# Altium schematic symbol library WCAP-ASLI.SchLib: 142 symbols (part 1 of 3)
Pins are listed as number, name and electrical type; pins without a type are passive.

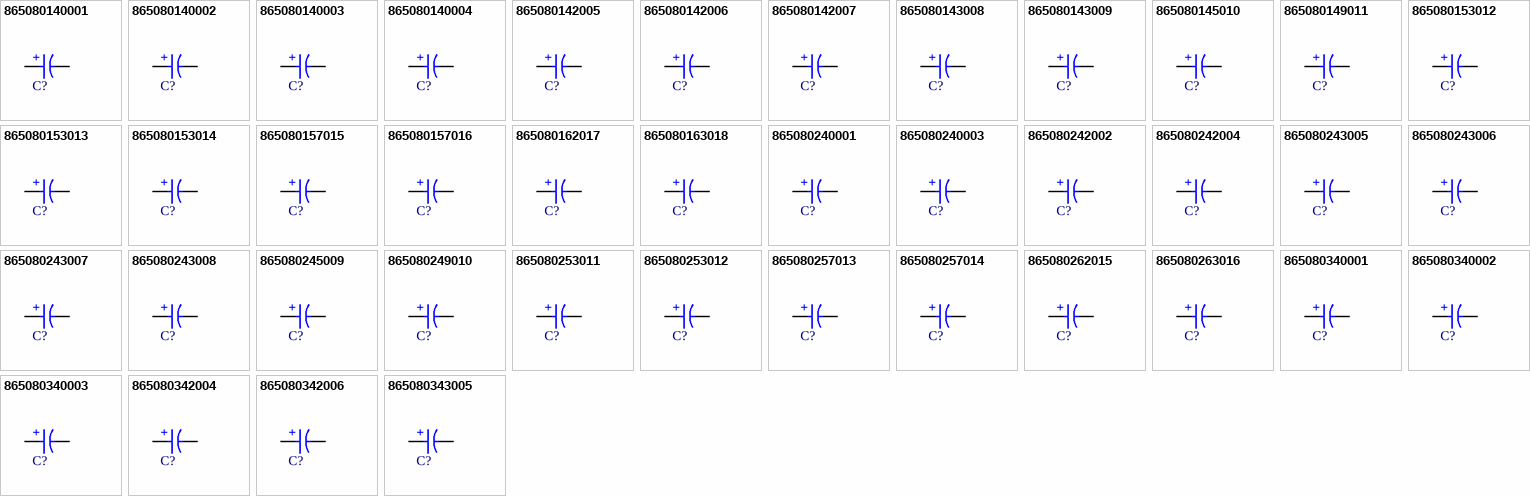
[diagram p0: symbols 865080140001 to 865080343005]

## 865080140001
designator C?, comment 22uF  (value not drawn)
WCAP-ASLI Aluminum Electrolytic Capacitor, V-Chip, D4 x H5.5mm, 22uF, 6.3V; Manufacturer Part Number: 865080140001; Manufacturer: Wurth Elektronik; Capacitance Tolerance: +/-20%; Dissipation Factor: 24%; Endurance: 2000h; Leakage Current: 3uA; Ripple Current: 75mA; Technical Reference: ASEB055220M6R3DVCTAB000; Category: Aluminum Electrolytic Capacitors; Match Code: WCAP-ASLI; ComponentLink1Description: Website Link; ComponentLink1URL: https://www.we-online.com/redexpert/article/865080140001?ad; ComponentLink2Description: Datasheet Link; ComponentLink2URL: https://www.we-online.com/redexpert/spec/865080140001?ad; Mount: Surface Mount; Operating Temperature Max: 105°C; Operating Temperature Min: -55°C; Packaging: Tape and Reel; Height: 5.5mm; Diameter: 4mm; Capacitance: 22uF; Rated Voltage (DC): 6.3V
footprint WCAP-ASLI_D4H5.5
simulation model 865080140001_22uF
pins: 1 P, 2 N
text: +

## 865080140002
designator C?, comment 27uF  (value not drawn)
WCAP-ASLI Aluminum Electrolytic Capacitor, V-Chip, D4 x H5.5mm, 27uF, 6.3V; Manufacturer Part Number: 865080140002; Manufacturer: Wurth Elektronik; Capacitance Tolerance: +/-20%; Dissipation Factor: 24%; Endurance: 2000h; Leakage Current: 3uA; Ripple Current: 79mA; Technical Reference: ASEB055270M6R3DVCTAB000; Category: Aluminum Electrolytic Capacitors; Match Code: WCAP-ASLI; ComponentLink1Description: Website Link; ComponentLink1URL: https://www.we-online.com/redexpert/article/865080140002?ad; ComponentLink2Description: Datasheet Link; ComponentLink2URL: https://www.we-online.com/redexpert/spec/865080140002?ad; Mount: Surface Mount; Operating Temperature Max: 105°C; Operating Temperature Min: -55°C; Packaging: Tape and Reel; Height: 5.5mm; Diameter: 4mm; Capacitance: 27uF; Rated Voltage (DC): 6.3V
footprint WCAP-ASLI_D4H5.5
simulation model 865080140002_27uF
pins: 1 P, 2 N
text: +

## 865080140003
designator C?, comment 33uF  (value not drawn)
WCAP-ASLI Aluminum Electrolytic Capacitor, V-Chip, D4 x H5.5mm, 33uF, 6.3V; Manufacturer Part Number: 865080140003; Manufacturer: Wurth Elektronik; Capacitance Tolerance: +/-20%; Dissipation Factor: 24%; Endurance: 2000h; Leakage Current: 3uA; Ripple Current: 82mA; Technical Reference: ASEB055330M6R3DVCTAB000; Category: Aluminum Electrolytic Capacitors; Match Code: WCAP-ASLI; ComponentLink1Description: Website Link; ComponentLink1URL: https://www.we-online.com/redexpert/article/865080140003?ad; ComponentLink2Description: Datasheet Link; ComponentLink2URL: https://www.we-online.com/redexpert/spec/865080140003?ad; Mount: Surface Mount; Operating Temperature Max: 105°C; Operating Temperature Min: -55°C; Packaging: Tape and Reel; Height: 5.5mm; Diameter: 4mm; Capacitance: 33uF; Rated Voltage (DC): 6.3V
footprint WCAP-ASLI_D4H5.5
simulation model 865080140003_33uF
pins: 1 P, 2 N
text: +

## 865080140004
designator C?, comment 47uF  (value not drawn)
WCAP-ASLI Aluminum Electrolytic Capacitor, V-Chip, D4 x H5.5mm, 47uF, 6.3V; Manufacturer Part Number: 865080140004; Manufacturer: Wurth Elektronik; Capacitance Tolerance: +/-20%; Dissipation Factor: 24%; Endurance: 2000h; Leakage Current: 3uA; Ripple Current: 86mA; Technical Reference: ASEB055470M6R3DVCTAB000; Category: Aluminum Electrolytic Capacitors; Match Code: WCAP-ASLI; ComponentLink1Description: Website Link; ComponentLink1URL: https://www.we-online.com/redexpert/article/865080140004?ad; ComponentLink2Description: Datasheet Link; ComponentLink2URL: https://www.we-online.com/redexpert/spec/865080140004?ad; Mount: Surface Mount; Operating Temperature Max: 105°C; Operating Temperature Min: -55°C; Packaging: Tape and Reel; Height: 5.5mm; Diameter: 4mm; Capacitance: 47uF; Rated Voltage (DC): 6.3V
footprint WCAP-ASLI_D4H5.5
simulation model 865080140004_47uF
pins: 1 P, 2 N
text: +

## 865080142005
designator C?, comment 56uF  (value not drawn)
WCAP-ASLI Aluminum Electrolytic Capacitor, V-Chip, D5 x H5.5mm, 56uF, 6.3V; Manufacturer Part Number: 865080142005; Manufacturer: Wurth Elektronik; Capacitance Tolerance: +/-20%; Dissipation Factor: 24%; Endurance: 2000h; Leakage Current: 3.528uA; Ripple Current: 150mA; Technical Reference: ASEC055560M6R3DVCTBB000; Category: Aluminum Electrolytic Capacitors; Match Code: WCAP-ASLI; ComponentLink1Description: Website Link; ComponentLink1URL: https://www.we-online.com/redexpert/article/865080142005?ad; ComponentLink2Description: Datasheet Link; ComponentLink2URL: https://www.we-online.com/redexpert/spec/865080142005?ad; Mount: Surface Mount; Operating Temperature Max: 105°C; Operating Temperature Min: -55°C; Packaging: Tape and Reel; Height: 5.5mm; Diameter: 5mm; Capacitance: 56uF; Rated Voltage (DC): 6.3V
footprint WCAP-ASLI_D5H5.5
simulation model 865080142005_56uF
pins: 1 P, 2 N
text: +

## 865080142006
designator C?, comment 68uF  (value not drawn)
WCAP-ASLI Aluminum Electrolytic Capacitor, V-Chip, D5 x H5.5mm, 68uF, 6.3V; Manufacturer Part Number: 865080142006; Manufacturer: Wurth Elektronik; Capacitance Tolerance: +/-20%; Dissipation Factor: 24%; Endurance: 2000h; Leakage Current: 4.284uA; Ripple Current: 160mA; Technical Reference: ASEC055680M6R3DVCTBB000; Category: Aluminum Electrolytic Capacitors; Match Code: WCAP-ASLI; ComponentLink1Description: Website Link; ComponentLink1URL: https://www.we-online.com/redexpert/article/865080142006?ad; ComponentLink2Description: Datasheet Link; ComponentLink2URL: https://www.we-online.com/redexpert/spec/865080142006?ad; Mount: Surface Mount; Operating Temperature Max: 105°C; Operating Temperature Min: -55°C; Packaging: Tape and Reel; Height: 5.5mm; Diameter: 5mm; Capacitance: 68uF; Rated Voltage (DC): 6.3V
footprint WCAP-ASLI_D5H5.5
simulation model 865080142006_68uF
pins: 1 P, 2 N
text: +

## 865080142007
designator C?, comment 100uF  (value not drawn)
WCAP-ASLI Aluminum Electrolytic Capacitor, V-Chip, D5 x H5.5mm, 100uF, 6.3V; Manufacturer Part Number: 865080142007; Manufacturer: Wurth Elektronik; Capacitance Tolerance: +/-20%; Dissipation Factor: 24%; Endurance: 2000h; Leakage Current: 6.3uA; Ripple Current: 170mA; Technical Reference: ASEC055101M6R3DVCTBB000; Category: Aluminum Electrolytic Capacitors; Match Code: WCAP-ASLI; ComponentLink1Description: Website Link; ComponentLink1URL: https://www.we-online.com/redexpert/article/865080142007?ad; ComponentLink2Description: Datasheet Link; ComponentLink2URL: https://www.we-online.com/redexpert/spec/865080142007?ad; Mount: Surface Mount; Operating Temperature Max: 105°C; Operating Temperature Min: -55°C; Packaging: Tape and Reel; Height: 5.5mm; Diameter: 5mm; Capacitance: 100uF; Rated Voltage (DC): 6.3V
footprint WCAP-ASLI_D5H5.5
simulation model 865080142007_100uF
pins: 1 P, 2 N
text: +

## 865080143008
designator C?, comment 150uF  (value not drawn)
WCAP-ASLI Aluminum Electrolytic Capacitor, V-Chip, D6.3 x H5.5mm, 150uF, 6.3V; Manufacturer Part Number: 865080143008; Manufacturer: Wurth Elektronik; Capacitance Tolerance: +/-20%; Dissipation Factor: 24%; Endurance: 2000h; Leakage Current: 9.45uA; Ripple Current: 235mA; Technical Reference: ASED055151M6R3DVCTBB000; Category: Aluminum Electrolytic Capacitors; Match Code: WCAP-ASLI; ComponentLink1Description: Website Link; ComponentLink1URL: https://www.we-online.com/redexpert/article/865080143008?ad; ComponentLink2Description: Datasheet Link; ComponentLink2URL: https://www.we-online.com/redexpert/spec/865080143008?ad; Mount: Surface Mount; Operating Temperature Max: 105°C; Operating Temperature Min: -55°C; Packaging: Tape and Reel; Height: 5.5mm; Diameter: 6.3mm; Capacitance: 150uF; Rated Voltage (DC): 6.3V
footprint WCAP-ASLI_D6.3H5.5
simulation model 865080143008_150uF
pins: 1 P, 2 N
text: +

## 865080143009
designator C?, comment 220uF  (value not drawn)
WCAP-ASLI Aluminum Electrolytic Capacitor, V-Chip, D6.3 x H5.5mm, 220uF, 6.3V; Manufacturer Part Number: 865080143009; Manufacturer: Wurth Elektronik; Capacitance Tolerance: +/-20%; Dissipation Factor: 24%; Endurance: 2000h; Leakage Current: 13.86uA; Ripple Current: 240mA; Technical Reference: ASED055221M6R3DVCTBB000; Category: Aluminum Electrolytic Capacitors; Match Code: WCAP-ASLI; ComponentLink1Description: Website Link; ComponentLink1URL: https://www.we-online.com/redexpert/article/865080143009?ad; ComponentLink2Description: Datasheet Link; ComponentLink2URL: https://www.we-online.com/redexpert/spec/865080143009?ad; Mount: Surface Mount; Operating Temperature Max: 105°C; Operating Temperature Min: -55°C; Packaging: Tape and Reel; Height: 5.5mm; Diameter: 6.3mm; Capacitance: 220uF; Rated Voltage (DC): 6.3V
footprint WCAP-ASLI_D6.3H5.5
simulation model 865080143009_220uF
pins: 1 P, 2 N
text: +

## 865080145010
designator C?, comment 330uF  (value not drawn)
WCAP-ASLI Aluminum Electrolytic Capacitor, V-Chip, D6.3 x H7.7mm, 330uF, 6.3V; Manufacturer Part Number: 865080145010; Manufacturer: Wurth Elektronik; Capacitance Tolerance: +/-20%; Dissipation Factor: 24%; Endurance: 2000h; Leakage Current: 20.79uA; Ripple Current: 275mA; Technical Reference: ASED077331M6R3DVCTCB000; Category: Aluminum Electrolytic Capacitors; Match Code: WCAP-ASLI; ComponentLink1Description: Website Link; ComponentLink1URL: https://www.we-online.com/redexpert/article/865080145010?ad; ComponentLink2Description: Datasheet Link; ComponentLink2URL: https://www.we-online.com/redexpert/spec/865080145010?ad; Mount: Surface Mount; Operating Temperature Max: 105°C; Operating Temperature Min: -55°C; Packaging: Tape and Reel; Height: 7.7mm; Diameter: 6.3mm; Capacitance: 330uF; Rated Voltage (DC): 6.3V
footprint WCAP-ASLI_D6.3H7.7
simulation model 865080145010_330uF
pins: 1 P, 2 N
text: +

## 865080149011
designator C?, comment 330uF  (value not drawn)
WCAP-ASLI Aluminum Electrolytic Capacitor, V-Chip, D8 x H6.5mm, 330uF, 6.3V; Manufacturer Part Number: 865080149011; Manufacturer: Wurth Elektronik; Capacitance Tolerance: +/-20%; Dissipation Factor: 24%; Endurance: 2000h; Leakage Current: 20.79uA; Ripple Current: 290mA; Technical Reference: ASEE065331M6R3DVCTBB000; Category: Aluminum Electrolytic Capacitors; Match Code: WCAP-ASLI; ComponentLink1Description: Website Link; ComponentLink1URL: https://www.we-online.com/redexpert/article/865080149011?ad; ComponentLink2Description: Datasheet Link; ComponentLink2URL: https://www.we-online.com/redexpert/spec/865080149011?ad; Mount: Surface Mount; Operating Temperature Max: 105°C; Operating Temperature Min: -55°C; Packaging: Tape and Reel; Height: 6.5mm; Diameter: 8mm; Capacitance: 330uF; Rated Voltage (DC): 6.3V
footprint WCAP-ASLI_D8H6.5
simulation model 865080149011_330uF
pins: 1 P, 2 N
text: +

## 865080153012
designator C?, comment 470uF  (value not drawn)
WCAP-ASLI Aluminum Electrolytic Capacitor, V-Chip, D8 x H10.5mm, 470uF, 6.3V; Manufacturer Part Number: 865080153012; Manufacturer: Wurth Elektronik; Capacitance Tolerance: +/-20%; Dissipation Factor: 24%; Endurance: 2000h; Leakage Current: 29.61uA; Ripple Current: 450mA; Technical Reference: ASEE105471M6R3DVCTEB000; Category: Aluminum Electrolytic Capacitors; Match Code: WCAP-ASLI; ComponentLink1Description: Website Link; ComponentLink1URL: https://www.we-online.com/redexpert/article/865080153012?ad; ComponentLink2Description: Datasheet Link; ComponentLink2URL: https://www.we-online.com/redexpert/spec/865080153012?ad; Mount: Surface Mount; Operating Temperature Max: 105°C; Operating Temperature Min: -55°C; Packaging: Tape and Reel; Height: 10.5mm; Diameter: 8mm; Capacitance: 470uF; Rated Voltage (DC): 6.3V
footprint WCAP-ASLI_D8H10.5
simulation model 865080153012_470uF
pins: 1 P, 2 N
text: +

## 865080153013
designator C?, comment 680uF  (value not drawn)
WCAP-ASLI Aluminum Electrolytic Capacitor, V-Chip, D8 x H10.5mm, 680uF, 6.3V; Manufacturer Part Number: 865080153013; Manufacturer: Wurth Elektronik; Capacitance Tolerance: +/-20%; Dissipation Factor: 24%; Endurance: 2000h; Leakage Current: 42.84uA; Ripple Current: 500mA; Technical Reference: ASEE105681M6R3DVCTEB000; Category: Aluminum Electrolytic Capacitors; Match Code: WCAP-ASLI; ComponentLink1Description: Website Link; ComponentLink1URL: https://www.we-online.com/redexpert/article/865080153013?ad; ComponentLink2Description: Datasheet Link; ComponentLink2URL: https://www.we-online.com/redexpert/spec/865080153013?ad; Mount: Surface Mount; Operating Temperature Max: 105°C; Operating Temperature Min: -55°C; Packaging: Tape and Reel; Height: 10.5mm; Diameter: 8mm; Capacitance: 680uF; Rated Voltage (DC): 6.3V
footprint WCAP-ASLI_D8H10.5
simulation model 865080153013_680uF
pins: 1 P, 2 N
text: +

## 865080153014
designator C?, comment 1000uF  (value not drawn)
WCAP-ASLI Aluminum Electrolytic Capacitor, V-Chip, D8 x H10.5mm, 1000uF, 6.3V; Manufacturer Part Number: 865080153014; Manufacturer: Wurth Elektronik; Capacitance Tolerance: +/-20%; Dissipation Factor: 24%; Endurance: 2000h; Leakage Current: 63uA; Ripple Current: 530mA; Technical Reference: ASEE105102M6R3DVCTEB000; Category: Aluminum Electrolytic Capacitors; Match Code: WCAP-ASLI; ComponentLink1Description: Website Link; ComponentLink1URL: https://www.we-online.com/redexpert/article/865080153014?ad; ComponentLink2Description: Datasheet Link; ComponentLink2URL: https://www.we-online.com/redexpert/spec/865080153014?ad; Mount: Surface Mount; Operating Temperature Max: 105°C; Operating Temperature Min: -55°C; Packaging: Tape and Reel; Height: 10.5mm; Diameter: 8mm; Capacitance: 1000uF; Rated Voltage (DC): 6.3V
footprint WCAP-ASLI_D8H10.5
simulation model 865080153014_1mF
pins: 1 P, 2 N
text: +

## 865080157015
designator C?, comment 1200uF  (value not drawn)
WCAP-ASLI Aluminum Electrolytic Capacitor, V-Chip, D10 x H10.5mm, 1200uF, 6.3V; Manufacturer Part Number: 865080157015; Manufacturer: Wurth Elektronik; Capacitance Tolerance: +/-20%; Dissipation Factor: 24%; Endurance: 2000h; Leakage Current: 75.6uA; Ripple Current: 600mA; Technical Reference: ASEF105122M6R3DVCTEB000; Category: Aluminum Electrolytic Capacitors; Match Code: WCAP-ASLI; ComponentLink1Description: Website Link; ComponentLink1URL: https://www.we-online.com/redexpert/article/865080157015?ad; ComponentLink2Description: Datasheet Link; ComponentLink2URL: https://www.we-online.com/redexpert/spec/865080157015?ad; Mount: Surface Mount; Operating Temperature Max: 105°C; Operating Temperature Min: -55°C; Packaging: Tape and Reel; Height: 10.5mm; Diameter: 10mm; Capacitance: 1200uF; Rated Voltage (DC): 6.3V
footprint WCAP-ASLI_D10H10.5
simulation model 865080157015_1.2mF
pins: 1 P, 2 N
text: +

## 865080157016
designator C?, comment 1500uF  (value not drawn)
WCAP-ASLI Aluminum Electrolytic Capacitor, V-Chip, D10 x H10.5mm, 1500uF, 6.3V; Manufacturer Part Number: 865080157016; Manufacturer: Wurth Elektronik; Capacitance Tolerance: +/-20%; Dissipation Factor: 24%; Endurance: 2000h; Leakage Current: 94.5uA; Ripple Current: 650mA; Technical Reference: ASEF105152M6R3DVCTEB000; Category: Aluminum Electrolytic Capacitors; Match Code: WCAP-ASLI; ComponentLink1Description: Website Link; ComponentLink1URL: https://www.we-online.com/redexpert/article/865080157016?ad; ComponentLink2Description: Datasheet Link; ComponentLink2URL: https://www.we-online.com/redexpert/spec/865080157016?ad; Mount: Surface Mount; Operating Temperature Max: 105°C; Operating Temperature Min: -55°C; Packaging: Tape and Reel; Height: 10.5mm; Diameter: 10mm; Capacitance: 1500uF; Rated Voltage (DC): 6.3V
footprint WCAP-ASLI_D10H10.5
simulation model 865080157016_1.5mF
pins: 1 P, 2 N
text: +

## 865080162017
designator C?, comment 3300uF  (value not drawn)
WCAP-ASLI Aluminum Electrolytic Capacitor, V-Chip, D12.5 x H14mm, 3300uF, 6.3V; Manufacturer Part Number: 865080162017; Manufacturer: Wurth Elektronik; Capacitance Tolerance: +/-20%; Dissipation Factor: 28%; Endurance: 5000h; Leakage Current: 207.9uA; Ripple Current: 1100mA; Technical Reference: ASEH140332M6R3DVCTGE000; Category: Aluminum Electrolytic Capacitors; Match Code: WCAP-ASLI; ComponentLink1Description: Website Link; ComponentLink1URL: https://www.we-online.com/redexpert/article/865080162017?ad; ComponentLink2Description: Datasheet Link; ComponentLink2URL: https://www.we-online.com/redexpert/spec/865080162017?ad; Mount: Surface Mount; Operating Temperature Max: 105°C; Operating Temperature Min: -55°C; Packaging: Tape and Reel; Height: 14mm; Diameter: 12.5mm; Capacitance: 3300uF; Rated Voltage (DC): 6.3V
footprint WCAP-ASLI_D12.5H14
simulation model 865080162017_3.3mF
pins: 1 P, 2 N
text: +

## 865080163018
designator C?, comment 6800uF  (value not drawn)
WCAP-ASLI Aluminum Electrolytic Capacitor, V-Chip, D16 x H17mm, 6800uF, 6.3V; Manufacturer Part Number: 865080163018; Manufacturer: Wurth Elektronik; Capacitance Tolerance: +/-20%; Dissipation Factor: 34%; Endurance: 5000h; Leakage Current: 428.4uA; Ripple Current: 1250mA; Technical Reference: ASEK170682M6R3DVCTHE000; Category: Aluminum Electrolytic Capacitors; Match Code: WCAP-ASLI; ComponentLink1Description: Website Link; ComponentLink1URL: https://www.we-online.com/redexpert/article/865080163018?ad; ComponentLink2Description: Datasheet Link; ComponentLink2URL: https://www.we-online.com/redexpert/spec/865080163018?ad; Mount: Surface Mount; Operating Temperature Max: 105°C; Operating Temperature Min: -55°C; Packaging: Tape and Reel; Height: 17mm; Diameter: 16mm; Capacitance: 6800uF; Rated Voltage (DC): 6.3V
footprint WCAP-ASLI_D16H17
simulation model 865080163018_6.8mF
pins: 1 P, 2 N
text: +

## 865080240001
designator C?, comment 22uF  (value not drawn)
WCAP-ASLI Aluminum Electrolytic Capacitor, V-Chip, D4 x H5.5mm, 22uF, 10V; Manufacturer Part Number: 865080240001; Manufacturer: Wurth Elektronik; Capacitance Tolerance: +/-20%; Dissipation Factor: 19%; Endurance: 2000h; Leakage Current: 3uA; Ripple Current: 80mA; Technical Reference: ASEB055220M010DVCTAB000; Category: Aluminum Electrolytic Capacitors; Match Code: WCAP-ASLI; ComponentLink1Description: Website Link; ComponentLink1URL: https://www.we-online.com/redexpert/article/865080240001?ad; ComponentLink2Description: Datasheet Link; ComponentLink2URL: https://www.we-online.com/redexpert/spec/865080240001?ad; Mount: Surface Mount; Operating Temperature Max: 105°C; Operating Temperature Min: -55°C; Packaging: Tape and Reel; Height: 5.5mm; Diameter: 4mm; Capacitance: 22uF; Rated Voltage (DC): 10V
footprint WCAP-ASLI_D4H5.5
simulation model 865080240001_22uF
pins: 1 P, 2 N
text: +

## 865080240003
designator C?, comment 33uF  (value not drawn)
WCAP-ASLI Aluminum Electrolytic Capacitor, V-Chip, D4 x H5.5mm, 33uF, 10V; Manufacturer Part Number: 865080240003; Manufacturer: Wurth Elektronik; Capacitance Tolerance: +/-20%; Dissipation Factor: 19%; Endurance: 2000h; Leakage Current: 3.3uA; Ripple Current: 90mA; Technical Reference: ASEB055330M010DVCTAB000; Category: Aluminum Electrolytic Capacitors; Match Code: WCAP-ASLI; ComponentLink1Description: Website Link; ComponentLink1URL: https://www.we-online.com/redexpert/article/865080240003?ad; ComponentLink2Description: Datasheet Link; ComponentLink2URL: https://www.we-online.com/redexpert/spec/865080240003?ad; Mount: Surface Mount; Operating Temperature Max: 105°C; Operating Temperature Min: -55°C; Packaging: Tape and Reel; Height: 5.5mm; Diameter: 4mm; Capacitance: 33uF; Rated Voltage (DC): 10V
footprint WCAP-ASLI_D4H5.5
simulation model 865080240003_33uF
pins: 1 P, 2 N
text: +

## 865080242002
designator C?, comment 27uF  (value not drawn)
WCAP-ASLI Aluminum Electrolytic Capacitor, V-Chip, D5 x H5.5mm, 27uF, 10V; Manufacturer Part Number: 865080242002; Manufacturer: Wurth Elektronik; Capacitance Tolerance: +/-20%; Dissipation Factor: 19%; Endurance: 2000h; Leakage Current: 3uA; Ripple Current: 125mA; Technical Reference: ASEC055270M010DVCTBB000; Category: Aluminum Electrolytic Capacitors; Match Code: WCAP-ASLI; ComponentLink1Description: Website Link; ComponentLink1URL: https://www.we-online.com/redexpert/article/865080242002?ad; ComponentLink2Description: Datasheet Link; ComponentLink2URL: https://www.we-online.com/redexpert/spec/865080242002?ad; Mount: Surface Mount; Operating Temperature Max: 105°C; Operating Temperature Min: -55°C; Packaging: Tape and Reel; Height: 5.5mm; Diameter: 5mm; Capacitance: 27uF; Rated Voltage (DC): 10V
footprint WCAP-ASLI_D5H5.5
simulation model 865080242002_27uF
pins: 1 P, 2 N
text: +

## 865080242004
designator C?, comment 47uF  (value not drawn)
WCAP-ASLI Aluminum Electrolytic Capacitor, V-Chip, D5 x H5.5mm, 47uF, 10V; Manufacturer Part Number: 865080242004; Manufacturer: Wurth Elektronik; Capacitance Tolerance: +/-20%; Dissipation Factor: 19%; Endurance: 2000h; Leakage Current: 4.7uA; Ripple Current: 165mA; Technical Reference: ASEC055470M010DVCTBB000; Category: Aluminum Electrolytic Capacitors; Match Code: WCAP-ASLI; ComponentLink1Description: Website Link; ComponentLink1URL: https://www.we-online.com/redexpert/article/865080242004?ad; ComponentLink2Description: Datasheet Link; ComponentLink2URL: https://www.we-online.com/redexpert/spec/865080242004?ad; Mount: Surface Mount; Operating Temperature Max: 105°C; Operating Temperature Min: -55°C; Packaging: Tape and Reel; Height: 5.5mm; Diameter: 5mm; Capacitance: 47uF; Rated Voltage (DC): 10V
footprint WCAP-ASLI_D5H5.5
simulation model 865080242004_47uF
pins: 1 P, 2 N
text: +

## 865080243005
designator C?, comment 56uF  (value not drawn)
WCAP-ASLI Aluminum Electrolytic Capacitor, V-Chip, D6.3 x H5.5mm, 56uF, 10V; Manufacturer Part Number: 865080243005; Manufacturer: Wurth Elektronik; Capacitance Tolerance: +/-20%; Dissipation Factor: 19%; Endurance: 2000h; Leakage Current: 5.6uA; Ripple Current: 210mA; Technical Reference: ASED055560M010DVCTBB000; Category: Aluminum Electrolytic Capacitors; Match Code: WCAP-ASLI; ComponentLink1Description: Website Link; ComponentLink1URL: https://www.we-online.com/redexpert/article/865080243005?ad; ComponentLink2Description: Datasheet Link; ComponentLink2URL: https://www.we-online.com/redexpert/spec/865080243005?ad; Mount: Surface Mount; Operating Temperature Max: 105°C; Operating Temperature Min: -55°C; Packaging: Tape and Reel; Height: 5.5mm; Diameter: 6.3mm; Capacitance: 56uF; Rated Voltage (DC): 10V
footprint WCAP-ASLI_D6.3H5.5
simulation model 865080243005_56uF
pins: 1 P, 2 N
text: +

## 865080243006
designator C?, comment 68uF  (value not drawn)
WCAP-ASLI Aluminum Electrolytic Capacitor, V-Chip, D6.3 x H5.5mm, 68uF, 10V; Manufacturer Part Number: 865080243006; Manufacturer: Wurth Elektronik; Capacitance Tolerance: +/-20%; Dissipation Factor: 19%; Endurance: 2000h; Leakage Current: 6.8uA; Ripple Current: 220mA; Technical Reference: ASED055680M010DVCTBB000; Category: Aluminum Electrolytic Capacitors; Match Code: WCAP-ASLI; ComponentLink1Description: Website Link; ComponentLink1URL: https://www.we-online.com/redexpert/article/865080243006?ad; ComponentLink2Description: Datasheet Link; ComponentLink2URL: https://www.we-online.com/redexpert/spec/865080243006?ad; Mount: Surface Mount; Operating Temperature Max: 105°C; Operating Temperature Min: -55°C; Packaging: Tape and Reel; Height: 5.5mm; Diameter: 6.3mm; Capacitance: 68uF; Rated Voltage (DC): 10V
footprint WCAP-ASLI_D6.3H5.5
simulation model 865080243006_68uF
pins: 1 P, 2 N
text: +

## 865080243007
designator C?, comment 100uF  (value not drawn)
WCAP-ASLI Aluminum Electrolytic Capacitor, V-Chip, D6.3 x H5.5mm, 100uF, 10V; Manufacturer Part Number: 865080243007; Manufacturer: Wurth Elektronik; Capacitance Tolerance: +/-20%; Dissipation Factor: 19%; Endurance: 2000h; Leakage Current: 10uA; Ripple Current: 240mA; Technical Reference: ASED055101M010DVCTBB000; Category: Aluminum Electrolytic Capacitors; Match Code: WCAP-ASLI; ComponentLink1Description: Website Link; ComponentLink1URL: https://www.we-online.com/redexpert/article/865080243007?ad; ComponentLink2Description: Datasheet Link; ComponentLink2URL: https://www.we-online.com/redexpert/spec/865080243007?ad; Mount: Surface Mount; Operating Temperature Max: 105°C; Operating Temperature Min: -55°C; Packaging: Tape and Reel; Height: 5.5mm; Diameter: 6.3mm; Capacitance: 100uF; Rated Voltage (DC): 10V
footprint WCAP-ASLI_D6.3H5.5
simulation model 865080243007_100uF
pins: 1 P, 2 N
text: +

## 865080243008
designator C?, comment 150uF  (value not drawn)
WCAP-ASLI Aluminum Electrolytic Capacitor, V-Chip, D6.3 x H5.5mm, 150uF, 10V; Manufacturer Part Number: 865080243008; Manufacturer: Wurth Elektronik; Capacitance Tolerance: +/-20%; Dissipation Factor: 19%; Endurance: 2000h; Leakage Current: 15uA; Ripple Current: 250mA; Technical Reference: ASED055151M010DVCTBB000; Category: Aluminum Electrolytic Capacitors; Match Code: WCAP-ASLI; ComponentLink1Description: Website Link; ComponentLink1URL: https://www.we-online.com/redexpert/article/865080243008?ad; ComponentLink2Description: Datasheet Link; ComponentLink2URL: https://www.we-online.com/redexpert/spec/865080243008?ad; Mount: Surface Mount; Operating Temperature Max: 105°C; Operating Temperature Min: -55°C; Packaging: Tape and Reel; Height: 5.5mm; Diameter: 6.3mm; Capacitance: 150uF; Rated Voltage (DC): 10V
footprint WCAP-ASLI_D6.3H5.5
simulation model 865080243008_150uF
pins: 1 P, 2 N
text: +

## 865080245009
designator C?, comment 220uF  (value not drawn)
WCAP-ASLI Aluminum Electrolytic Capacitor, V-Chip, D6.3 x H7.7mm, 220uF, 10V; Manufacturer Part Number: 865080245009; Manufacturer: Wurth Elektronik; Capacitance Tolerance: +/-20%; Dissipation Factor: 19%; Endurance: 2000h; Leakage Current: 22uA; Ripple Current: 270mA; Technical Reference: ASED077221M010DVCTCB000; Category: Aluminum Electrolytic Capacitors; Match Code: WCAP-ASLI; ComponentLink1Description: Website Link; ComponentLink1URL: https://www.we-online.com/redexpert/article/865080245009?ad; ComponentLink2Description: Datasheet Link; ComponentLink2URL: https://www.we-online.com/redexpert/spec/865080245009?ad; Mount: Surface Mount; Operating Temperature Max: 105°C; Operating Temperature Min: -55°C; Packaging: Tape and Reel; Height: 7.7mm; Diameter: 6.3mm; Capacitance: 220uF; Rated Voltage (DC): 10V
footprint WCAP-ASLI_D6.3H7.7
simulation model 865080245009_220uF
pins: 1 P, 2 N
text: +

## 865080249010
designator C?, comment 220uF  (value not drawn)
WCAP-ASLI Aluminum Electrolytic Capacitor, V-Chip, D8 x H6.5mm, 220uF, 10V; Manufacturer Part Number: 865080249010; Manufacturer: Wurth Elektronik; Capacitance Tolerance: +/-20%; Dissipation Factor: 19%; Endurance: 2000h; Leakage Current: 22uA; Ripple Current: 285mA; Technical Reference: ASEE065221M010DVCTBB000; Category: Aluminum Electrolytic Capacitors; Match Code: WCAP-ASLI; ComponentLink1Description: Website Link; ComponentLink1URL: https://www.we-online.com/redexpert/article/865080249010?ad; ComponentLink2Description: Datasheet Link; ComponentLink2URL: https://www.we-online.com/redexpert/spec/865080249010?ad; Mount: Surface Mount; Operating Temperature Max: 105°C; Operating Temperature Min: -55°C; Packaging: Tape and Reel; Height: 6.5mm; Diameter: 8mm; Capacitance: 220uF; Rated Voltage (DC): 10V
footprint WCAP-ASLI_D8H6.5
simulation model 865080249010_220uF
pins: 1 P, 2 N
text: +

## 865080253011
designator C?, comment 330uF  (value not drawn)
WCAP-ASLI Aluminum Electrolytic Capacitor, V-Chip, D8 x H10.5mm, 330uF, 10V; Manufacturer Part Number: 865080253011; Manufacturer: Wurth Elektronik; Capacitance Tolerance: +/-20%; Dissipation Factor: 19%; Endurance: 2000h; Leakage Current: 33uA; Ripple Current: 500mA; Technical Reference: ASEE105331M010DVCTEB000; Category: Aluminum Electrolytic Capacitors; Match Code: WCAP-ASLI; ComponentLink1Description: Website Link; ComponentLink1URL: https://www.we-online.com/redexpert/article/865080253011?ad; ComponentLink2Description: Datasheet Link; ComponentLink2URL: https://www.we-online.com/redexpert/spec/865080253011?ad; Mount: Surface Mount; Operating Temperature Max: 105°C; Operating Temperature Min: -55°C; Packaging: Tape and Reel; Height: 10.5mm; Diameter: 8mm; Capacitance: 330uF; Rated Voltage (DC): 10V
footprint WCAP-ASLI_D8H10.5
simulation model 865080253011_330uF
pins: 1 P, 2 N
text: +

## 865080253012
designator C?, comment 470uF  (value not drawn)
WCAP-ASLI Aluminum Electrolytic Capacitor, V-Chip, D8 x H10.5mm, 470uF, 10V; Manufacturer Part Number: 865080253012; Manufacturer: Wurth Elektronik; Capacitance Tolerance: +/-20%; Dissipation Factor: 19%; Endurance: 2000h; Leakage Current: 47uA; Ripple Current: 550mA; Technical Reference: ASEE105471M010DVCTEB000; Category: Aluminum Electrolytic Capacitors; Match Code: WCAP-ASLI; ComponentLink1Description: Website Link; ComponentLink1URL: https://www.we-online.com/redexpert/article/865080253012?ad; ComponentLink2Description: Datasheet Link; ComponentLink2URL: https://www.we-online.com/redexpert/spec/865080253012?ad; Mount: Surface Mount; Operating Temperature Max: 105°C; Operating Temperature Min: -55°C; Packaging: Tape and Reel; Height: 10.5mm; Diameter: 8mm; Capacitance: 470uF; Rated Voltage (DC): 10V
footprint WCAP-ASLI_D8H10.5
simulation model 865080253012_470uF
pins: 1 P, 2 N
text: +

## 865080257013
designator C?, comment 680uF  (value not drawn)
WCAP-ASLI Aluminum Electrolytic Capacitor, V-Chip, D10 x H10.5mm, 680uF, 10V; Manufacturer Part Number: 865080257013; Manufacturer: Wurth Elektronik; Capacitance Tolerance: +/-20%; Dissipation Factor: 19%; Endurance: 2000h; Leakage Current: 68uA; Ripple Current: 680mA; Technical Reference: ASEF105681M010DVCTEB000; Category: Aluminum Electrolytic Capacitors; Match Code: WCAP-ASLI; ComponentLink1Description: Website Link; ComponentLink1URL: https://www.we-online.com/redexpert/article/865080257013?ad; ComponentLink2Description: Datasheet Link; ComponentLink2URL: https://www.we-online.com/redexpert/spec/865080257013?ad; Mount: Surface Mount; Operating Temperature Max: 105°C; Operating Temperature Min: -55°C; Packaging: Tape and Reel; Height: 10.5mm; Diameter: 10mm; Capacitance: 680uF; Rated Voltage (DC): 10V
footprint WCAP-ASLI_D10H10.5
simulation model 865080257013_680uF
pins: 1 P, 2 N
text: +

## 865080257014
designator C?, comment 1000uF  (value not drawn)
WCAP-ASLI Aluminum Electrolytic Capacitor, V-Chip, D10 x H10.5mm, 1000uF, 10V; Manufacturer Part Number: 865080257014; Manufacturer: Wurth Elektronik; Capacitance Tolerance: +/-20%; Dissipation Factor: 19%; Endurance: 2000h; Leakage Current: 100uA; Ripple Current: 740mA; Technical Reference: ASEF105102M010DVCTEB000; Category: Aluminum Electrolytic Capacitors; Match Code: WCAP-ASLI; ComponentLink1Description: Website Link; ComponentLink1URL: https://www.we-online.com/redexpert/article/865080257014?ad; ComponentLink2Description: Datasheet Link; ComponentLink2URL: https://www.we-online.com/redexpert/spec/865080257014?ad; Mount: Surface Mount; Operating Temperature Max: 105°C; Operating Temperature Min: -55°C; Packaging: Tape and Reel; Height: 10.5mm; Diameter: 10mm; Capacitance: 1000uF; Rated Voltage (DC): 10V
footprint WCAP-ASLI_D10H10.5
simulation model 865080257014_1mF
pins: 1 P, 2 N
text: +

## 865080262015
designator C?, comment 2200uF  (value not drawn)
WCAP-ASLI Aluminum Electrolytic Capacitor, V-Chip, D12.5 x H14mm, 2200uF, 10V; Manufacturer Part Number: 865080262015; Manufacturer: Wurth Elektronik; Capacitance Tolerance: +/-20%; Dissipation Factor: 21%; Endurance: 5000h; Leakage Current: 220uA; Ripple Current: 1100mA; Technical Reference: ASEH140222M010DVCTGE000; Category: Aluminum Electrolytic Capacitors; Match Code: WCAP-ASLI; ComponentLink1Description: Website Link; ComponentLink1URL: https://www.we-online.com/redexpert/article/865080262015?ad; ComponentLink2Description: Datasheet Link; ComponentLink2URL: https://www.we-online.com/redexpert/spec/865080262015?ad; Mount: Surface Mount; Operating Temperature Max: 105°C; Operating Temperature Min: -55°C; Packaging: Tape and Reel; Height: 14mm; Diameter: 12.5mm; Capacitance: 2200uF; Rated Voltage (DC): 10V
footprint WCAP-ASLI_D12.5H14
simulation model 865080262015_2.2mF
pins: 1 P, 2 N
text: +

## 865080263016
designator C?, comment 4700uF  (value not drawn)
WCAP-ASLI Aluminum Electrolytic Capacitor, V-Chip, D16 x H17mm, 4700uF, 10V; Manufacturer Part Number: 865080263016; Manufacturer: Wurth Elektronik; Capacitance Tolerance: +/-20%; Dissipation Factor: 25%; Endurance: 5000h; Leakage Current: 470uA; Ripple Current: 1250mA; Technical Reference: ASEH140242M010DVCTGE000; Category: Aluminum Electrolytic Capacitors; Match Code: WCAP-ASLI; ComponentLink1Description: Website Link; ComponentLink1URL: https://www.we-online.com/redexpert/article/865080263016?ad; ComponentLink2Description: Datasheet Link; ComponentLink2URL: https://www.we-online.com/redexpert/spec/865080263016?ad; Mount: Surface Mount; Operating Temperature Max: 105°C; Operating Temperature Min: -55°C; Packaging: Tape and Reel; Height: 17mm; Diameter: 16mm; Capacitance: 4700uF; Rated Voltage (DC): 10V
footprint WCAP-ASLI_D16H17
simulation model 865080263016_4.7mF
pins: 1 P, 2 N
text: +

## 865080340001
designator C?, comment 10uF  (value not drawn)
WCAP-ASLI Aluminum Electrolytic Capacitor, V-Chip, D4 x H5.5mm, 10uF, 16V; Manufacturer Part Number: 865080340001; Manufacturer: Wurth Elektronik; Capacitance Tolerance: +/-20%; Dissipation Factor: 16%; Endurance: 2000h; Leakage Current: 3uA; Ripple Current: 80mA; Technical Reference: ASEB055100M016DVCTAB000; Category: Aluminum Electrolytic Capacitors; Match Code: WCAP-ASLI; ComponentLink1Description: Website Link; ComponentLink1URL: https://www.we-online.com/redexpert/article/865080340001?ad; ComponentLink2Description: Datasheet Link; ComponentLink2URL: https://www.we-online.com/redexpert/spec/865080340001?ad; Mount: Surface Mount; Operating Temperature Max: 105°C; Operating Temperature Min: -55°C; Packaging: Tape and Reel; Height: 5.5mm; Diameter: 4mm; Capacitance: 10uF; Rated Voltage (DC): 16V
footprint WCAP-ASLI_D4H5.5
simulation model 865080340001_10uF
pins: 1 P, 2 N
text: +

## 865080340002
designator C?, comment 15uF  (value not drawn)
WCAP-ASLI Aluminum Electrolytic Capacitor, V-Chip, D4 x H5.5mm, 15uF, 16V; Manufacturer Part Number: 865080340002; Manufacturer: Wurth Elektronik; Capacitance Tolerance: +/-20%; Dissipation Factor: 16%; Endurance: 2000h; Leakage Current: 3uA; Ripple Current: 85mA; Technical Reference: ASEB055150M016DVCTAB000; Category: Aluminum Electrolytic Capacitors; Match Code: WCAP-ASLI; ComponentLink1Description: Website Link; ComponentLink1URL: https://www.we-online.com/redexpert/article/865080340002?ad; ComponentLink2Description: Datasheet Link; ComponentLink2URL: https://www.we-online.com/redexpert/spec/865080340002?ad; Mount: Surface Mount; Operating Temperature Max: 105°C; Operating Temperature Min: -55°C; Packaging: Tape and Reel; Height: 5.5mm; Diameter: 4mm; Capacitance: 15uF; Rated Voltage (DC): 16V
footprint WCAP-ASLI_D4H5.5
simulation model 865080340002_15uF
pins: 1 P, 2 N
text: +

## 865080340003
designator C?, comment 22uF  (value not drawn)
WCAP-ASLI Aluminum Electrolytic Capacitor, V-Chip, D4 x H5.5mm, 22uF, 16V; Manufacturer Part Number: 865080340003; Manufacturer: Wurth Elektronik; Capacitance Tolerance: +/-20%; Dissipation Factor: 16%; Endurance: 2000h; Leakage Current: 3.52uA; Ripple Current: 90mA; Technical Reference: ASEB055220M016DVCTAB000; Category: Aluminum Electrolytic Capacitors; Match Code: WCAP-ASLI; ComponentLink1Description: Website Link; ComponentLink1URL: https://www.we-online.com/redexpert/article/865080340003?ad; ComponentLink2Description: Datasheet Link; ComponentLink2URL: https://www.we-online.com/redexpert/spec/865080340003?ad; Mount: Surface Mount; Operating Temperature Max: 105°C; Operating Temperature Min: -55°C; Packaging: Tape and Reel; Height: 5.5mm; Diameter: 4mm; Capacitance: 22uF; Rated Voltage (DC): 16V
footprint WCAP-ASLI_D4H5.5
simulation model 865080340003_22uF
pins: 1 P, 2 N
text: +

## 865080342004
designator C?, comment 27uF  (value not drawn)
WCAP-ASLI Aluminum Electrolytic Capacitor, V-Chip, D5 x H5.5mm, 27uF, 16V; Manufacturer Part Number: 865080342004; Manufacturer: Wurth Elektronik; Capacitance Tolerance: +/-20%; Dissipation Factor: 16%; Endurance: 2000h; Leakage Current: 4.32uA; Ripple Current: 170mA; Technical Reference: ASEC055270M016DVCTBB000; Category: Aluminum Electrolytic Capacitors; Match Code: WCAP-ASLI; ComponentLink1Description: Website Link; ComponentLink1URL: https://www.we-online.com/redexpert/article/865080342004?ad; ComponentLink2Description: Datasheet Link; ComponentLink2URL: https://www.we-online.com/redexpert/spec/865080342004?ad; Mount: Surface Mount; Operating Temperature Max: 105°C; Operating Temperature Min: -55°C; Packaging: Tape and Reel; Height: 5.5mm; Diameter: 5mm; Capacitance: 27uF; Rated Voltage (DC): 16V
footprint WCAP-ASLI_D5H5.5
simulation model 865080342004_27uF
pins: 1 P, 2 N
text: +

## 865080342006
designator C?, comment 47uF  (value not drawn)
WCAP-ASLI Aluminum Electrolytic Capacitor, V-Chip, D5 x H5.5mm, 47uF, 16V; Manufacturer Part Number: 865080342006; Manufacturer: Wurth Elektronik; Capacitance Tolerance: +/-20%; Dissipation Factor: 16%; Endurance: 2000h; Leakage Current: 7.52uA; Ripple Current: 195mA; Technical Reference: ASEC055470M016DVCTBB000; Category: Aluminum Electrolytic Capacitors; Match Code: WCAP-ASLI; ComponentLink1Description: Website Link; ComponentLink1URL: https://www.we-online.com/redexpert/article/865080342006?ad; ComponentLink2Description: Datasheet Link; ComponentLink2URL: https://www.we-online.com/redexpert/spec/865080342006?ad; Mount: Surface Mount; Operating Temperature Max: 105°C; Operating Temperature Min: -55°C; Packaging: Tape and Reel; Height: 5.5mm; Diameter: 5mm; Capacitance: 47uF; Rated Voltage (DC): 16V
footprint WCAP-ASLI_D5H5.5
simulation model 865080342006_47uF
pins: 1 P, 2 N
text: +

## 865080343005
designator C?, comment 33uF  (value not drawn)
WCAP-ASLI Aluminum Electrolytic Capacitor, V-Chip, D6.3 x H5.5mm, 33uF, 16V; Manufacturer Part Number: 865080343005; Manufacturer: Wurth Elektronik; Capacitance Tolerance: +/-20%; Dissipation Factor: 16%; Endurance: 2000h; Leakage Current: 5.28uA; Ripple Current: 185mA; Technical Reference: ASED055330M016DVCTBB000; Category: Aluminum Electrolytic Capacitors; Match Code: WCAP-ASLI; ComponentLink1Description: Website Link; ComponentLink1URL: https://www.we-online.com/redexpert/article/865080343005?ad; ComponentLink2Description: Datasheet Link; ComponentLink2URL: https://www.we-online.com/redexpert/spec/865080343005?ad; Mount: Surface Mount; Operating Temperature Max: 105°C; Operating Temperature Min: -55°C; Packaging: Tape and Reel; Height: 5.5mm; Diameter: 6.3mm; Capacitance: 33uF; Rated Voltage (DC): 16V
footprint WCAP-ASLI_D6.3H5.5
simulation model 865080343005_33uF
pins: 1 P, 2 N
text: +

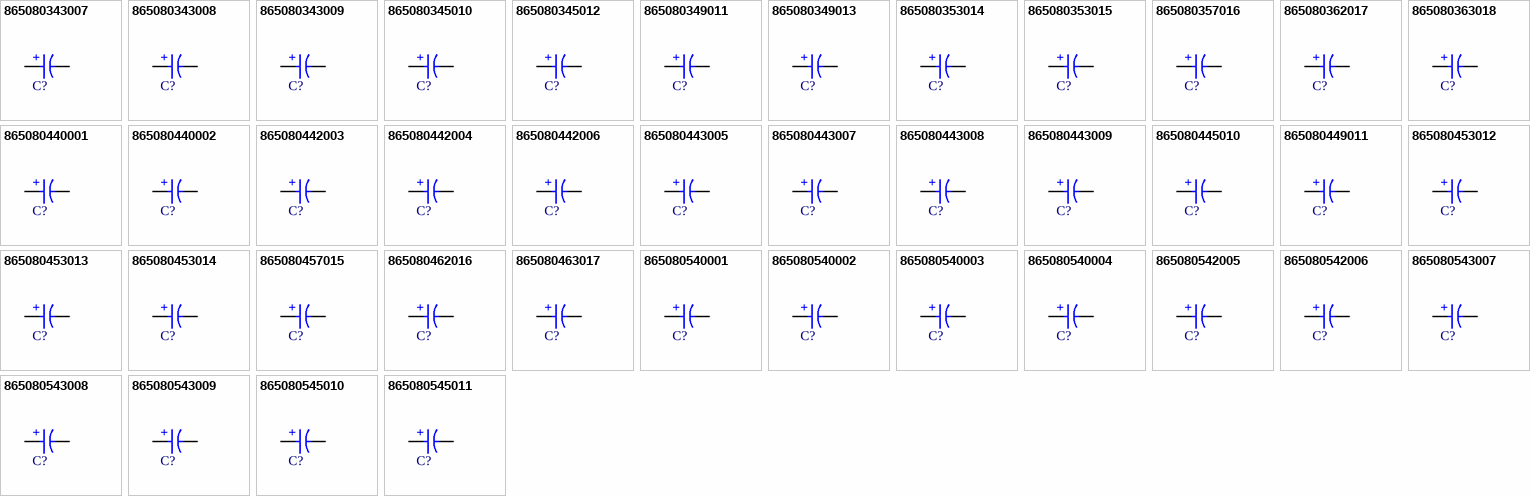
[diagram p1: symbols 865080343007 to 865080545011]

## 865080343007
designator C?, comment 56uF  (value not drawn)
WCAP-ASLI Aluminum Electrolytic Capacitor, V-Chip, D6.3 x H5.5mm, 56uF, 16V; Manufacturer Part Number: 865080343007; Manufacturer: Wurth Elektronik; Capacitance Tolerance: +/-20%; Dissipation Factor: 16%; Endurance: 2000h; Leakage Current: 8.96uA; Ripple Current: 220mA; Technical Reference: ASED055560M016DVCTBB000; Category: Aluminum Electrolytic Capacitors; Match Code: WCAP-ASLI; ComponentLink1Description: Website Link; ComponentLink1URL: https://www.we-online.com/redexpert/article/865080343007?ad; ComponentLink2Description: Datasheet Link; ComponentLink2URL: https://www.we-online.com/redexpert/spec/865080343007?ad; Mount: Surface Mount; Operating Temperature Max: 105°C; Operating Temperature Min: -55°C; Packaging: Tape and Reel; Height: 5.5mm; Diameter: 6.3mm; Capacitance: 56uF; Rated Voltage (DC): 16V
footprint WCAP-ASLI_D6.3H5.5
simulation model 865080343007_56uF
pins: 1 P, 2 N
text: +

## 865080343008
designator C?, comment 68uF  (value not drawn)
WCAP-ASLI Aluminum Electrolytic Capacitor, V-Chip, D6.3 x H5.5mm, 68uF, 16V; Manufacturer Part Number: 865080343008; Manufacturer: Wurth Elektronik; Capacitance Tolerance: +/-20%; Dissipation Factor: 16%; Endurance: 2000h; Leakage Current: 10.88uA; Ripple Current: 230mA; Technical Reference: ASED055680M016DVCTBB000; Category: Aluminum Electrolytic Capacitors; Match Code: WCAP-ASLI; ComponentLink1Description: Website Link; ComponentLink1URL: https://www.we-online.com/redexpert/article/865080343008?ad; ComponentLink2Description: Datasheet Link; ComponentLink2URL: https://www.we-online.com/redexpert/spec/865080343008?ad; Mount: Surface Mount; Operating Temperature Max: 105°C; Operating Temperature Min: -55°C; Packaging: Tape and Reel; Height: 5.5mm; Diameter: 6.3mm; Capacitance: 68uF; Rated Voltage (DC): 16V
footprint WCAP-ASLI_D6.3H5.5
simulation model 865080343008_68uF
pins: 1 P, 2 N
text: +

## 865080343009
designator C?, comment 100uF  (value not drawn)
WCAP-ASLI Aluminum Electrolytic Capacitor, V-Chip, D6.3 x H5.5mm, 100uF, 16V; Manufacturer Part Number: 865080343009; Manufacturer: Wurth Elektronik; Capacitance Tolerance: +/-20%; Dissipation Factor: 16%; Endurance: 2000h; Leakage Current: 16uA; Ripple Current: 255mA; Technical Reference: ASED055101M016DVCTBB000; Category: Aluminum Electrolytic Capacitors; Match Code: WCAP-ASLI; ComponentLink1Description: Website Link; ComponentLink1URL: https://www.we-online.com/redexpert/article/865080343009?ad; ComponentLink2Description: Datasheet Link; ComponentLink2URL: https://www.we-online.com/redexpert/spec/865080343009?ad; Mount: Surface Mount; Operating Temperature Max: 105°C; Operating Temperature Min: -55°C; Packaging: Tape and Reel; Height: 5.5mm; Diameter: 6.3mm; Capacitance: 100uF; Rated Voltage (DC): 16V
footprint WCAP-ASLI_D6.3H5.5
simulation model 865080343009_100uF
pins: 1 P, 2 N
text: +

## 865080345010
designator C?, comment 150uF  (value not drawn)
WCAP-ASLI Aluminum Electrolytic Capacitor, V-Chip, D6.3 x H7.7mm, 150uF, 16V; Manufacturer Part Number: 865080345010; Manufacturer: Wurth Elektronik; Capacitance Tolerance: +/-20%; Dissipation Factor: 16%; Endurance: 2000h; Leakage Current: 24uA; Ripple Current: 265mA; Technical Reference: ASED077151M016DVCTCB000; Category: Aluminum Electrolytic Capacitors; Match Code: WCAP-ASLI; ComponentLink1Description: Website Link; ComponentLink1URL: https://www.we-online.com/redexpert/article/865080345010?ad; ComponentLink2Description: Datasheet Link; ComponentLink2URL: https://www.we-online.com/redexpert/spec/865080345010?ad; Mount: Surface Mount; Operating Temperature Max: 105°C; Operating Temperature Min: -55°C; Packaging: Tape and Reel; Height: 7.7mm; Diameter: 6.3mm; Capacitance: 150uF; Rated Voltage (DC): 16V
footprint WCAP-ASLI_D6.3H7.7
simulation model 865080345010_150uF
pins: 1 P, 2 N
text: +

## 865080345012
designator C?, comment 220uF  (value not drawn)
WCAP-ASLI Aluminum Electrolytic Capacitor, V-Chip, D6.3 x H7.7mm, 220uF, 16V; Manufacturer Part Number: 865080345012; Manufacturer: Wurth Elektronik; Capacitance Tolerance: +/-20%; Dissipation Factor: 16%; Endurance: 2000h; Leakage Current: 35.2uA; Ripple Current: 275mA; Technical Reference: ASED077221M016DVCTCB000; Category: Aluminum Electrolytic Capacitors; Match Code: WCAP-ASLI; ComponentLink1Description: Website Link; ComponentLink1URL: https://www.we-online.com/redexpert/article/865080345012?ad; ComponentLink2Description: Datasheet Link; ComponentLink2URL: https://www.we-online.com/redexpert/spec/865080345012?ad; Mount: Surface Mount; Operating Temperature Max: 105°C; Operating Temperature Min: -55°C; Packaging: Tape and Reel; Height: 7.7mm; Diameter: 6.3mm; Capacitance: 220uF; Rated Voltage (DC): 16V
footprint WCAP-ASLI_D6.3H7.7
simulation model 865080345012_220uF
pins: 1 P, 2 N
text: +

## 865080349011
designator C?, comment 150uF  (value not drawn)
WCAP-ASLI Aluminum Electrolytic Capacitor, V-Chip, D8 x H6.5mm, 150uF, 16V; Manufacturer Part Number: 865080349011; Manufacturer: Wurth Elektronik; Capacitance Tolerance: +/-20%; Dissipation Factor: 16%; Endurance: 2000h; Leakage Current: 24uA; Ripple Current: 270mA; Technical Reference: ASEE065151M016DVCTBB000; Category: Aluminum Electrolytic Capacitors; Match Code: WCAP-ASLI; ComponentLink1Description: Website Link; ComponentLink1URL: https://www.we-online.com/redexpert/article/865080349011?ad; ComponentLink2Description: Datasheet Link; ComponentLink2URL: https://www.we-online.com/redexpert/spec/865080349011?ad; Mount: Surface Mount; Operating Temperature Max: 105°C; Operating Temperature Min: -55°C; Packaging: Tape and Reel; Height: 6.5mm; Diameter: 8mm; Capacitance: 150uF; Rated Voltage (DC): 16V
footprint WCAP-ASLI_D8H6.5
simulation model 865080349011_150uF
pins: 1 P, 2 N
text: +

## 865080349013
designator C?, comment 220uF  (value not drawn)
WCAP-ASLI Aluminum Electrolytic Capacitor, V-Chip, D8 x H6.5mm, 220uF, 16V; Manufacturer Part Number: 865080349013; Manufacturer: Wurth Elektronik; Capacitance Tolerance: +/-20%; Dissipation Factor: 16%; Endurance: 2000h; Leakage Current: 35.2uA; Ripple Current: 285mA; Technical Reference: ASEE065221M016DVCTBB000; Category: Aluminum Electrolytic Capacitors; Match Code: WCAP-ASLI; ComponentLink1Description: Website Link; ComponentLink1URL: https://www.we-online.com/redexpert/article/865080349013?ad; ComponentLink2Description: Datasheet Link; ComponentLink2URL: https://www.we-online.com/redexpert/spec/865080349013?ad; Mount: Surface Mount; Operating Temperature Max: 105°C; Operating Temperature Min: -55°C; Packaging: Tape and Reel; Height: 6.5mm; Diameter: 8mm; Capacitance: 220uF; Rated Voltage (DC): 16V
footprint WCAP-ASLI_D8H6.5
simulation model 865080349013_220uF
pins: 1 P, 2 N
text: +

## 865080353014
designator C?, comment 330uF  (value not drawn)
WCAP-ASLI Aluminum Electrolytic Capacitor, V-Chip, D8 x H10.5mm, 330uF, 16V; Manufacturer Part Number: 865080353014; Manufacturer: Wurth Elektronik; Capacitance Tolerance: +/-20%; Dissipation Factor: 16%; Endurance: 2000h; Leakage Current: 52.8uA; Ripple Current: 550mA; Technical Reference: ASEE105331M016DVCTEB000; Category: Aluminum Electrolytic Capacitors; Match Code: WCAP-ASLI; ComponentLink1Description: Website Link; ComponentLink1URL: https://www.we-online.com/redexpert/article/865080353014?ad; ComponentLink2Description: Datasheet Link; ComponentLink2URL: https://www.we-online.com/redexpert/spec/865080353014?ad; Mount: Surface Mount; Operating Temperature Max: 105°C; Operating Temperature Min: -55°C; Packaging: Tape and Reel; Height: 10.5mm; Diameter: 8mm; Capacitance: 330uF; Rated Voltage (DC): 16V
footprint WCAP-ASLI_D8H10.5
simulation model 865080353014_330uF
pins: 1 P, 2 N
text: +

## 865080353015
designator C?, comment 470uF  (value not drawn)
WCAP-ASLI Aluminum Electrolytic Capacitor, V-Chip, D8 x H10.5mm, 470uF, 16V; Manufacturer Part Number: 865080353015; Manufacturer: Wurth Elektronik; Capacitance Tolerance: +/-20%; Dissipation Factor: 16%; Endurance: 2000h; Leakage Current: 75.2uA; Ripple Current: 590mA; Technical Reference: ASEE105471M016DVCTEB000; Category: Aluminum Electrolytic Capacitors; Match Code: WCAP-ASLI; ComponentLink1Description: Website Link; ComponentLink1URL: https://www.we-online.com/redexpert/article/865080353015?ad; ComponentLink2Description: Datasheet Link; ComponentLink2URL: https://www.we-online.com/redexpert/spec/865080353015?ad; Mount: Surface Mount; Operating Temperature Max: 105°C; Operating Temperature Min: -55°C; Packaging: Tape and Reel; Height: 10.5mm; Diameter: 8mm; Capacitance: 470uF; Rated Voltage (DC): 16V
footprint WCAP-ASLI_D8H10.5
simulation model 865080353015_470uF
pins: 1 P, 2 N
text: +

## 865080357016
designator C?, comment 680uF  (value not drawn)
WCAP-ASLI Aluminum Electrolytic Capacitor, V-Chip, D10 x H10.5mm, 680uF, 16V; Manufacturer Part Number: 865080357016; Manufacturer: Wurth Elektronik; Capacitance Tolerance: +/-20%; Dissipation Factor: 16%; Endurance: 2000h; Leakage Current: 108.8uA; Ripple Current: 720mA; Technical Reference: ASEF105681M016DVCTEB000; Category: Aluminum Electrolytic Capacitors; Match Code: WCAP-ASLI; ComponentLink1Description: Website Link; ComponentLink1URL: https://www.we-online.com/redexpert/article/865080357016?ad; ComponentLink2Description: Datasheet Link; ComponentLink2URL: https://www.we-online.com/redexpert/spec/865080357016?ad; Mount: Surface Mount; Operating Temperature Max: 105°C; Operating Temperature Min: -55°C; Packaging: Tape and Reel; Height: 10.5mm; Diameter: 10mm; Capacitance: 680uF; Rated Voltage (DC): 16V
footprint WCAP-ASLI_D10H10.5
simulation model 865080357016_680uF
pins: 1 P, 2 N
text: +

## 865080362017
designator C?, comment 1500uF  (value not drawn)
WCAP-ASLI Aluminum Electrolytic Capacitor, V-Chip, D12.5 x H14mm, 1500uF, 16V; Manufacturer Part Number: 865080362017; Manufacturer: Wurth Elektronik; Capacitance Tolerance: +/-20%; Dissipation Factor: 16%; Endurance: 5000h; Leakage Current: 240uA; Ripple Current: 1100mA; Technical Reference: ASEH140152M016DVCTGE000; Category: Aluminum Electrolytic Capacitors; Match Code: WCAP-ASLI; ComponentLink1Description: Website Link; ComponentLink1URL: https://www.we-online.com/redexpert/article/865080362017?ad; ComponentLink2Description: Datasheet Link; ComponentLink2URL: https://www.we-online.com/redexpert/spec/865080362017?ad; Mount: Surface Mount; Operating Temperature Max: 105°C; Operating Temperature Min: -55°C; Packaging: Tape and Reel; Height: 14mm; Diameter: 12.5mm; Capacitance: 1500uF; Rated Voltage (DC): 16V
footprint WCAP-ASLI_D12.5H14
simulation model 865080362017_1.5mF
pins: 1 P, 2 N
text: +